# EAGLE library part FABO-ARDUINO (library FaBo-Template)
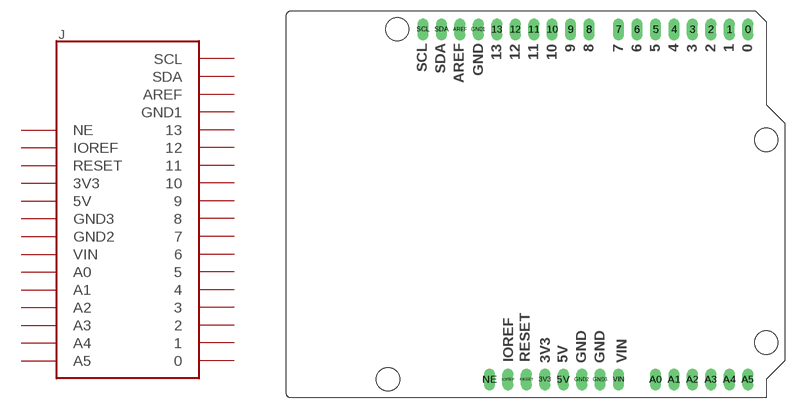
[diagram p9: symbol with the pads of FABO-ARDUINO; footprint FABO-ARDUINO]

Designator prefix J

## FABO-ARDUINO  [FABO-ARDUINO]
0  0
1  1
2  2
3  3
3V3  3V3
4  4
5  5
5V  5V
6  6
7  7
8  8
9  9
10  10
11  11
12  12
13  13
A0  A0
A1  A1
A2  A2
A3  A3
A4  A4
A5  A5
AREF  AREF
GND1  GND1
GND2  GND2
GND3  GND3
IOREF  IOREF
NE  NE
RESET  RESET
SCL  SCL
SDA  SDA
VIN  VIN

## Footprint FABO-ARDUINO (pad centres in mm)
drill 1 pad 1.422 long: 0 26.937,23.622; 1 24.397,23.622; 2 21.857,23.622; 3 19.317,23.622; 3V3 -1.003,-24.638; 4 16.777,23.622; 5 14.237,23.622; 5V 1.537,-24.638; 6 11.697,23.622; 7 9.157,23.622; 8 5.093,23.622; 9 2.553,23.622; 10 0.013,23.622; 11 -2.527,23.622; 12 -5.067,23.622; 13 -7.607,23.622; A0 14.237,-24.638; A1 16.777,-24.638; A2 19.317,-24.638; A3 21.857,-24.638; A4 24.397,-24.638; A5 26.937,-24.638; AREF -12.687,23.622; GND1 -10.147,23.622; GND2 4.077,-24.638; GND3 6.617,-24.638; IOREF -6.083,-24.638; NE -8.623,-24.638; RESET -3.543,-24.638; SCL -17.767,23.622; SDA -15.227,23.622; VIN 9.157,-24.638
hole 3.2 at 29.464,8.382
hole 3.2 at 29.464,-19.558
hole 3.2 at -21.336,23.622
hole 3.2 at -22.606,-24.638